# EAGLE library part SM05B-GHS-TB (library connectors)
JST GH 5P R/A Header
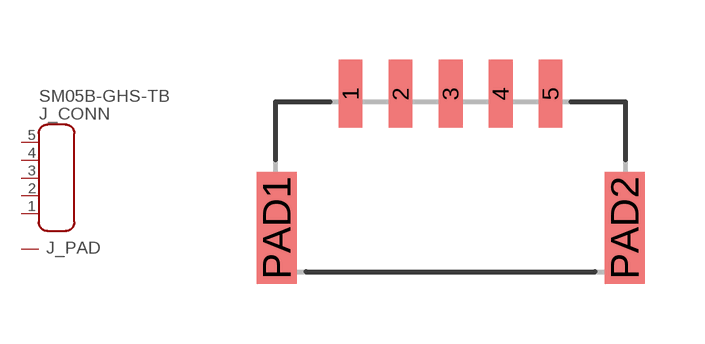
[diagram p10: symbol with the pads of SM05B-GHS-TB; footprint SM05B-GHS-TB]

Designator prefix J; gates _CONN=CONN5 _PAD=PAD

## SM05B-GHS-TB (MF: JST; MPN: SM05B-GHS-TB(LF)(SN); REVEIWED: NO; TESTED: NO)  [SM05B-GHS-TB]
1  _CONN:1
2  _CONN:2
3  _CONN:3
4  _CONN:4
5  _CONN:5
PAD1  _PAD:PAD
PAD2  _PAD:PAD

## Footprint SM05B-GHS-TB (pad centres in mm)
smd 0.6 x 1.7: 1 -2.5,2.08; 2 -1.25,2.08; 3 0,2.08; 4 1.25,2.08; 5 2.5,2.08
smd 1 x 2.8: PAD1 -4.35,-1.27; PAD2 4.35,-1.27